# EAGLE library part ICM-20948 (library ICM-20948)
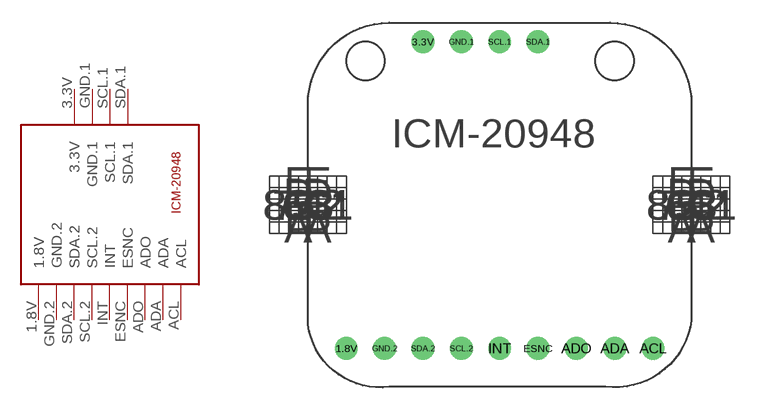
[diagram p0: symbol with the pads of ICM-20948; footprint ICM-20948]

Designator prefix -

## ICM-20948  [ICM-20948]
1.8V  1.8V
3.3V  3.3V
ACL  ACL
ADA  ADA
ADO  ADO
ESNC  ESNC
GND.1  GND.1
GND.2  GND.2
INT  INT
SCL.1  SCL.1
SCL.2  SCL.2
SDA.1  SDA.1
SDA.2  SDA.2

## Footprint ICM-20948 (pad centres in mm)
drill 1: 1.8V -10.16,-10.16; 3.3V -5.08,10.16; ACL 10.16,-10.16; ADA 7.62,-10.16; ADO 5.08,-10.16; ESNC 2.54,-10.16; GND.1 -2.54,10.16; GND.2 -7.62,-10.16; INT 0,-10.16; SCL.1 0,10.16; SCL.2 -2.54,-10.16; SDA.1 2.54,10.16; SDA.2 -5.08,-10.16